# Altium schematic symbol library BAT54C.SchLib: 1 symbol
Pins are listed as number, name and electrical type; pins without a type are passive.

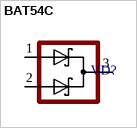
[diagram p0: symbol BAT54C]

## BAT54C
designator VD?
pins: 1, 2, 3